# Altium integrated library AT25SL641_113.IntLib: 1 symbol
Pins are listed as number, name and electrical type; pins without a type are passive.

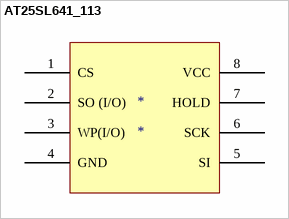
[diagram p0: symbol AT25SL641_113]

## AT25SL641_113
designator *
footprint AT25SL641_113 (QFN, 8-Leads, Body 6.00x5.00mm, Pitch 1.27mm, Thermal Pad 3.40x4.00mm, IPC Medium Density)
pins: 1 CS, 2 SO (I/O), 3 WP(I/O), 4 GND, 5 SI, 6 SCK, 7 HOLD, 8 VCC